# Altium footprint library ECEN_1400.PcbLib: 52 footprints (part 4 of 4)
Each footprint in its own frame and in the unit in brackets; x right, y up, seen from the top. Pads: shape width x height; smd on the part's side, far side on the other; paste and mask are expansions set on the pad; w line width, h text height; cw(c..) or ccw(c..) is an arc to the next point about the centre after c.
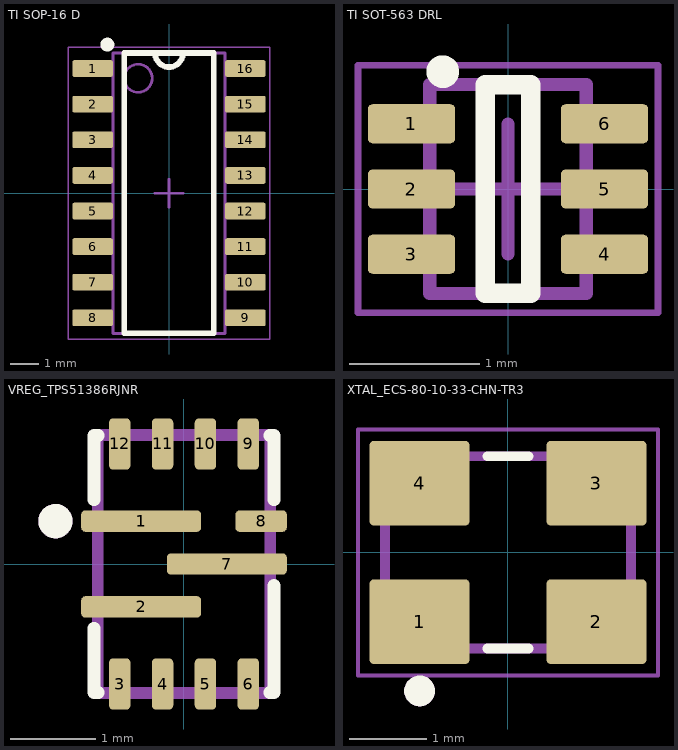
[diagram p3: the footprints below, top view; thin cyan lines are the x and y axes]

## TI SOP-16 D [mm] "SOP, 16-Leads, Body 9.90x3.90mm, Pitch 1.27mm, IPC Medium Density"
height 1.75
pads (16):
  rrect25% 1.45x0.6 smd: 1(-2.725,4.445) 2(-2.725,3.175) 3(-2.725,1.905) 4(-2.725,0.635) 5(-2.725,-0.635) 6(-2.725,-1.905) 7(-2.725,-3.175) 8(-2.725,-4.445) 9(2.725,-4.445) 10(2.725,-3.175) 11(2.725,-1.905) 12(2.725,-0.635) 13(2.725,0.635) 14(2.725,1.905) 15(2.725,3.175) 16(2.725,4.445)
Top Overlay:
  circle w0.25: c-2.2,5.3 r0.125
  lines w0.2: -0.498,4.95 ccw(c0,5) 0.498,4.95 ; -1.6,-5 -1.6,5 1.6,5 1.6,-5 -1.6,-5
Mechanical 13:
  circle w0.1: c-1.1,4.1 r0.5
  lines w0.1: -2,-5 -2,5 2,5 2,-5 -2,-5
Mechanical 15:
  lines w0.05: -3.6,-5.2 -3.6,5.2 3.6,5.2 3.6,-5.2 -3.6,-5.2
  lines w0.1: -0.5,0 0.5,0 ; 0,-0.5 0,0.5
3D body "TI SOP-16 D.step": height 1.75, standoff 0, extent -3,-5 3,5

## TI SOT-563 DRL [mm] "SOT DRL, 6-Leads, Body 1.10x1.60mm, Pitch 0.5mm, IPC Medium Density"
height 0.6
pads (6):
  rrect25% 0.67x0.3 smd: 1(-0.74,0.5) 2(-0.74,0) 3(-0.74,-0.5) 4(0.74,-0.5) 5(0.74,0) 6(0.74,0.5)
Top Overlay:
  circle w0.15: c-0.5,0.9 r0.05
  lines w0.15: -0.175,-0.8 -0.175,0.8 0.175,0.8 0.175,-0.8 -0.175,-0.8
Mechanical 13:
  lines w0.1: -0.6,-0.8 0.6,-0.8 0.6,0.8 -0.6,0.8 -0.6,-0.8
Mechanical 15:
  lines w0.05: -1.15,-0.95 1.15,-0.95 1.15,0.95 -1.15,0.95 -1.15,-0.95
  lines w0.1: -0.5,0 0.5,0 ; 0,-0.5 0,0.5
3D body "TI - SOT-563 DRL.step": height 0.6, standoff 0, extent -0.8,-0.797 0.8,0.797

## VREG_TPS51386RJNR [mm]
height 1
pads (12):
  rrect40% 1.4x0.25 smd paste-2 mask+0: 1(-0.5,0.5) 2(-0.5,-0.5) 7(0.5,0)
  rrect40% 0.25x0.6 smd paste-1 mask+0: 3(-0.75,-1.4) 4(-0.25,-1.4) 5(0.25,-1.4) 6(0.75,-1.4) 9(0.75,1.4) 10(0.25,1.4) 11(-0.25,1.4) 12(-0.75,1.4)
  rrect40% 0.6x0.25 smd paste-1 mask+0: 8(0.9,0.5)
Top Overlay:
  circle w0.2: c-1.5,0.5 r0.1
  lines w0.15: -1.05,-0.75 -1.05,-1.5 -1,-1.5 ; -1.05,0.75 -1.05,1.5 -1,1.5 ; 1,-1.5 1.05,-1.5 1.05,-0.25 ; 1,1.5 1.05,1.5 1.05,0.75
Top Paste:
  drawing of 15 lines, arcs and shapes, not listed
Top Solder:
  drawing of 12 lines, arcs and shapes, not listed
Mechanical 13:
  circle w0.2: c-1.5,0.5 r0.1
  lines w0.127: -1,-1.5 1,-1.5 1,1.5 -1,1.5 -1,-1.5
Mechanical 15:
  lines w0.05: -1.05,-1.55 1.05,-1.55 1.05,1.55 -1.05,1.55 -1.05,-1.55
Mechanical 20:
  lines w0.05: -1.05,-1.55 1.05,-1.55 1.05,1.55 -1.05,1.55 -1.05,-1.55
3D body "step_temp.STEP": height 1, standoff 0, extent -1,-1.5 1,1.5

## XTAL_ECS-80-10-33-CHN-TR3 [mm]
pads (4):
  rrect10% 1.3x1.1 smd: 1(-1.15,-0.9) 2(1.15,-0.9) 3(1.15,0.9) 4(-1.15,0.9)
Top Overlay:
  circle w0.2: c-1.15,-1.8 r0.1
  lines w0.127: -0.27,-1.25 0.27,-1.25 ; -0.27,1.25 0.27,1.25
Mechanical 13:
  circle w0.2: c-1.15,-1.8 r0.1
  lines w0.127: -1.6,-1.25 -1.6,1.25 1.6,1.25 1.6,-1.25 -1.6,-1.25
Mechanical 15:
  lines w0.05: -1.95,-1.6 -1.95,1.6 1.95,1.6 1.95,-1.6 -1.95,-1.6
Mechanical 20:
  lines w0.05: -1.95,-1.6 1.95,-1.6 1.95,1.6 -1.95,1.6 -1.95,-1.6